# Altium footprint library INH v4.01.PcbLib: 13 footprints
Each footprint in its own frame and in the unit in brackets; x right, y up, seen from the top. Pads: shape width x height; smd on the part's side, far side on the other; paste and mask are expansions set on the pad; w line width, h text height; cw(c..) or ccw(c..) is an arc to the next point about the centre after c.
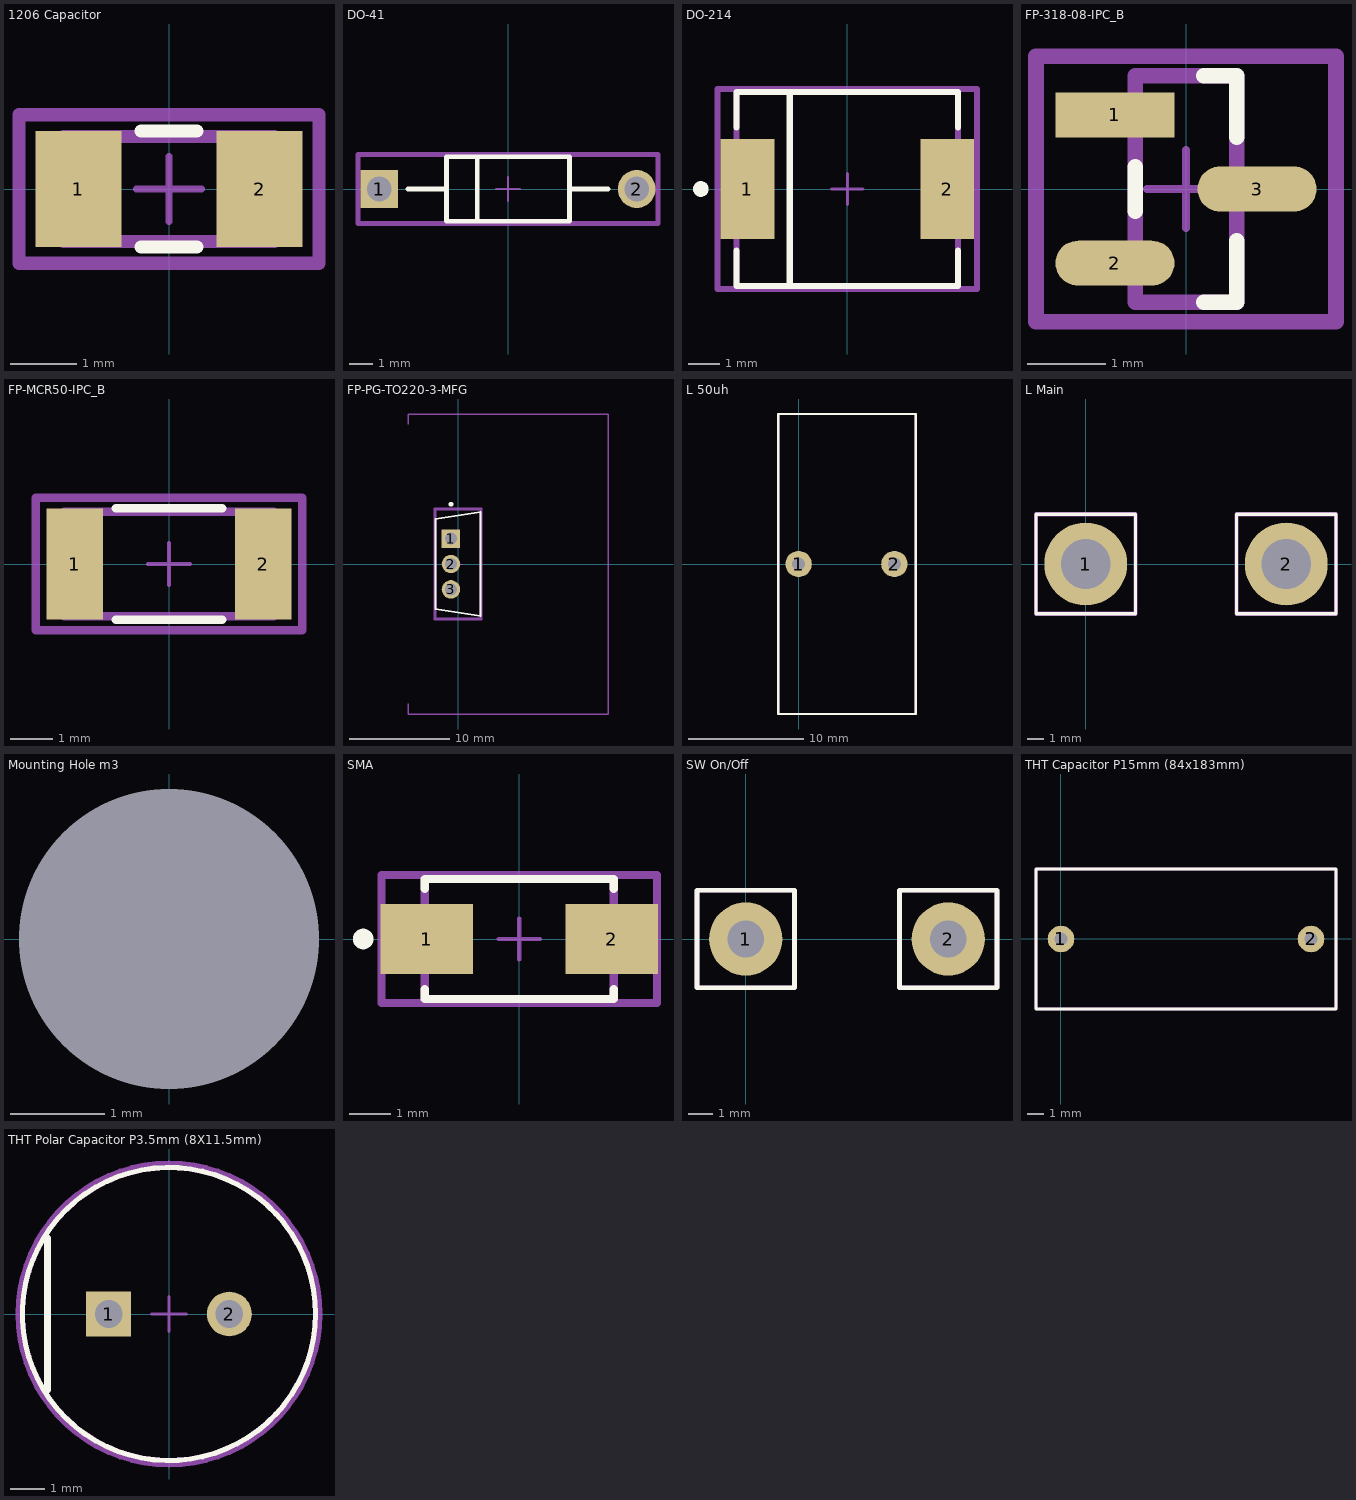
[diagram p0: the footprints below, top view; thin cyan lines are the x and y axes]

## 1206 Capacitor [mm]
pads (2):
  rect 1.305x1.758 smd paste+0 mask+0: 1(-1.376,0) 2(1.376,0)
Top Overlay:
  lines w0.2: -0.424,-0.879 0.424,-0.879 ; -0.424,0.879 0.424,0.879
Top Assembly:
  lines w0.2: -2.279,-1.129 -2.279,1.129 2.279,1.129 2.279,-1.129 -2.279,-1.129
  text ".Designator" at 0,0.188 h1
Top 3D Body:
  lines w0.2: -1.6,-0.8 -1.6,0.8 1.6,0.8 1.6,-0.8 -1.6,-0.8
Top Courtyard:
  lines w0.2: -2.279,-1.129 -2.279,1.129 2.279,1.129 2.279,-1.129 -2.279,-1.129
Top Component Center:
  lines w0.1: -0.5,0 0.5,0 ; 0,-0.5 0,0.5
3D body "Cap_Samsung_CL31B105KOFNNNE_eec.STEP": height 0.25, standoff 0, extent -2.279,-1.129 2.279,1.129

## DO-41 [mm]
pads (2):
  rect 1.6x1.6 hole 1.05 paste-2539.97 mask+0: 1(-5.438,0)
  round 1.6 hole 1.05 paste-2539.97 mask+0: 2(5.438,0)
Top Overlay:
  lines w0.2: -4.238,0 -2.6,0 ; -1.3,-1.29 -1.3,1.29 ; 2.6,0 4.238,0 ; -2.6,-1.36 -2.6,1.36 2.6,1.36 2.6,-1.36 -2.6,-1.36
Top Assembly:
  lines w0.2: -6.338,-1.46 -6.338,1.46 6.338,1.46 6.338,-1.46 -6.338,-1.46
  text ".Designator" at 0,0.188 h1
Top 3D Body:
  lines w0.2: -2.6,-1.36 -2.6,1.36 2.6,1.36 2.6,-1.36 -2.6,-1.36
Top Courtyard:
  lines w0.2: -6.338,-1.46 -6.338,1.46 6.338,1.46 6.338,-1.46 -6.338,-1.46
Top Component Center:
  lines w0.1: -0.5,0 0.5,0 ; 0,-0.5 0,0.5
3D body "Diode_onsemi_BZX85C3V9TR_eec.STEP": height 0.25, standoff 0, extent -6.338,-1.46 6.338,1.46

## DO-214 [mm]
pads (2):
  rect 1.72x3.2 smd paste+0 mask+0: 1(-3.205,0) 2(3.205,0)
Top Overlay:
  circle w0.25: c-4.7,0 r0.125
  lines w0.2: -3.555,-1.975 -3.555,-3.11 3.555,-3.11 3.555,-1.975 ; -3.555,1.975 -3.555,3.11 3.555,3.11 3.555,1.975 ; -1.85,-3 -1.85,3
Top Assembly:
  lines w0.2: -4.165,-3.21 -4.165,3.21 4.165,3.21 4.165,-3.21 -4.165,-3.21
  text ".Designator" at 0,-0.001 h1
Top 3D Body:
  lines w0.2: -3.555,-3.11 -3.555,3.11 3.555,3.11 3.555,-3.11 -3.555,-3.11
Top Courtyard:
  lines w0.2: -4.165,-3.21 -4.165,3.21 4.165,3.21 4.165,-3.21 -4.165,-3.21
Top Component Center:
  lines w0.1: -0.5,0 0.5,0 ; 0,-0.5 0,0.5
3D body "Diode_Vishay_SS34-E3-57T_eec.STEP": height 0.25, standoff 0, extent -4.165,-3.21 4.165,3.21

## FP-318-08-IPC_B [mm]
pads (3):
  rect 1.524x0.578 smd paste+0 mask+0: 1(-0.91,0.95)
  rrect100% 1.524x0.578 smd paste+0 mask+0: 2(-0.91,-0.95) 3(0.91,0)
Top Overlay:
  lines w0.2: -0.65,-0.286 -0.65,0.286 ; 0.227,-1.45 0.65,-1.45 0.65,-0.664 ; 0.227,1.45 0.65,1.45 0.65,0.664
Top Assembly:
  lines w0.2: -1.922,-1.7 -1.922,1.7 1.922,1.7 1.922,-1.7 -1.922,-1.7
  text ".Designator" at 0,-0.001 h1
Top 3D Body:
  lines w0.2: -0.65,-1.45 -0.65,1.45 0.65,1.45 0.65,-1.45 -0.65,-1.45
Top Courtyard:
  lines w0.2: -1.922,-1.7 -1.922,1.7 1.922,1.7 1.922,-1.7 -1.922,-1.7
Top Component Center:
  lines w0.1: -0.5,0 0.5,0 ; 0,-0.5 0,0.5
3D body "IC_ON_Semiconductor_NUD3112LT1G_eec.STEP": height 0.25, standoff 0, extent -1.922,-1.7 1.922,1.7

## FP-MCR50-IPC_B [mm]
pads (2):
  rect 1.356x2.658 smd paste+0 mask+0: 1(-2.251,0) 2(2.251,0)
Top Overlay:
  lines w0.2: -1.273,-1.329 1.273,-1.329 ; -1.273,1.329 1.273,1.329
Top Assembly:
  lines w0.2: -3.179,-1.579 -3.179,1.579 3.179,1.579 3.179,-1.579 -3.179,-1.579
  text ".Designator" at 0,0.188 h1
Top 3D Body:
  lines w0.2: -2.5,-1.25 -2.5,1.25 2.5,1.25 2.5,-1.25 -2.5,-1.25
Top Courtyard:
  lines w0.2: -3.179,-1.579 -3.179,1.579 3.179,1.579 3.179,-1.579 -3.179,-1.579
Top Component Center:
  lines w0.1: -0.5,0 0.5,0 ; 0,-0.5 0,0.5
3D body "Res_Rohm_MCR50JZHF6810_eec.STEP": height 0.25, standoff 0, extent -3.179,-1.579 3.179,1.579

## FP-PG-TO220-3-MFG [mm]
pads (3):
  rect 1.85x1.85 hole 1.2 paste-2539.97 mask+0: 1(-0.705,2.54)
  round 1.85 hole 1.2 paste-2539.97 mask+0: 2(-0.705,0) 3(-0.705,-2.54)
Top Overlay:
  circle w0.25: c-0.705,5.975 r0.125
  lines w0.2: -2.275,-4.5 2.275,-5.2 2.275,5.2 -2.275,4.5 -2.275,-4.5
Top Assembly:
  lines w0.2: -2.375,-5.55 2.375,-5.55 2.375,5.55 -2.375,5.55 -2.375,-5.55
  text ".Designator" at 0,-0.001 h1
Top 3D Body:
  lines w0.15: -5,-14 -5,-15 15,-15 15,15 -5,15 -5,14
  lines w0.2: -2.275,-5.45 2.275,-5.45 2.275,5.45 -2.275,5.45 -2.275,-5.45
Top Courtyard:
  lines w0.2: -2.375,-5.55 2.375,-5.55 2.375,5.55 -2.375,5.55 -2.375,-5.55
Top Component Center:
  lines w0.1: -0.5,0 0.5,0 ; 0,-0.5 0,0.5
3D body: height 35, standoff 0, extent -5,-15 15,15
3D body "Trans_Infineon_IRF6218PBF_eec.STEP": height 0.25, standoff 0, extent -2.375,-5.55 2.375,5.55

## L 50uh [mil]
pads (2):
  round 90 hole 45: 1(0,0) 2(326.77,0)
Top Overlay:
  lines w7.87: -70,-511.81 0,-511.81 326.77,-511.81 400,-511.81 400,511.81 326.77,511.81 0,511.81 -70,511.81 -70,-511.81
Top Assembly:
  lines w7.87: -70,-511.81 0,-511.81 326.77,-511.81 400,-511.81 400,511.81 326.77,511.81 0,511.81 -70,511.81 -70,-511.81
  text ".Designator" at 27.25,-9.18 h27.56
Top Courtyard:
  lines w7.87: -70,-511.81 0,-511.81 326.77,-511.81 400,-511.81 400,511.81 326.77,511.81 0,511.81 -70,511.81 -70,-511.81
3D body: height 100, standoff 0, extent 301.77,-25 351.77,25
3D body: height 1023.62, standoff 0, extent -68.9,-513.39 403.54,510.24
3D body: height 100, standoff 0, extent -25,-25 25,25

## L Main [mm]
pads (2):
  round 5 hole 3: 1(0,0) 2(12.1,0)
Top Overlay:
  lines w0.2: -3,-3 3,-3 3,3 -3,3 -3,-3 ; 9.1,-3 15.1,-3 15.1,3 9.1,3 9.1,-3
Top Assembly:
  lines w0.2: -3,-3 3,-3 3,3 -3,3 -3,-3 ; 9.1,-3 15.1,-3 15.1,3 9.1,3 9.1,-3
  text ".Designator" at 2.501,-0.233 h0.7
Top Courtyard:
  lines w0.254: -3,-3 3,-3 3,3 -3,3 -3,-3 ; 9.1,-3 15.1,-3 15.1,3 9.1,3 9.1,-3

## Mounting Hole m3 [mm]
pads (1):
  round 0 hole 3.2 unplated: ""(0,0)

## SMA [mm]
pads (2):
  rect 2.25x1.7 smd paste+0 mask+0: 1(-2.25,0) 2(2.25,0)
Top Overlay:
  circle w0.25: c-3.8,0 r0.125
  lines w0.2: -2.3,-1.225 -2.3,-1.46 2.3,-1.46 2.3,-1.225 ; -2.3,1.225 -2.3,1.46 2.3,1.46 2.3,1.225
Top Assembly:
  lines w0.2: -3.35,-1.56 3.35,-1.56 3.35,1.56 -3.35,1.56 -3.35,-1.56
  text ".Designator" at 0,0.188 h1
Top 3D Body:
  lines w0.2: -2.3,-1.46 2.3,-1.46 2.3,1.46 -2.3,1.46 -2.3,-1.46
Top Courtyard:
  lines w0.2: -3.35,-1.56 3.35,-1.56 3.35,1.56 -3.35,1.56 -3.35,-1.56
Top Component Center:
  lines w0.1: -0.5,0 0.5,0 ; 0,-0.5 0,0.5
3D body "Diode_Diodes_Inc_SBRT5A50SA-13_eec.STEP": height 0.25, standoff 0, extent -3.35,-1.56 3.35,1.56

## SW On/Off [mm]
pads (2):
  round 3 hole 1.5: 1(0,0) 2(8.3,0)
Top Overlay:
  lines w0.2: -2,-2 -2,2 2,2 2,-2 -2,-2 ; 6.3,-2 6.3,2 10.3,2 10.3,-2 6.3,-2
Top Assembly:
  lines w0.2: -2,-2 -2,2 2,2 2,-2 -2,-2 ; 6.3,-2 6.3,2 10.3,2 10.3,-2 6.3,-2
  text ".Designator" at 0.751,-0.233 h0.7
Top Courtyard:
  lines w0.2: -2,-2 -2,2 2,2 2,-2 -2,-2 ; 6.3,-2 6.3,2 10.3,2 10.3,-2 6.3,-2

## THT Capacitor P15mm (84x183mm) [mm]
pads (2):
  round 1.6 hole 0.8: 1(0,0) 2(15,0)
Top Overlay:
  lines w0.2: -1.5,-4.2 16.5,-4.2 16.5,4.2 -1.5,4.2 -1.5,-4.2
Top Assembly:
  lines w0.2: -1.5,-4.2 16.5,-4.2 16.5,4.2 -1.5,4.2 -1.5,-4.2
  text ".Designator" at 0.254,0.762 h1.52
Top Courtyard:
  lines w0.2: -1.5,-4.2 16.5,-4.2 16.5,4.2 -1.5,4.2 -1.5,-4.2
3D body: height 0, standoff -2.54, extent 14.619,-0.381 15.381,0.381
3D body: height 0, standoff -2.54, extent -0.381,-0.381 0.381,0.381
3D body: height 18.3, standoff 0, extent -1.5,-4.25 16.5,4.25

## THT Polar Capacitor P3.5mm (8X11.5mm) [mm]
pads (2):
  rect 1.3x1.3 hole 0.8 paste-2539.97 mask+0: 1(-1.75,0)
  round 1.3 hole 0.8 paste-2539.97 mask+0: 2(1.75,0)
Top Overlay:
  circle w0.15: c0,0 r4.25
  lines w0.2: -3.525,-2.2 -3.525,2.2
Top Assembly:
  text ".Designator" at 0,0.188 h1
Top 3D Body:
  circle w0.15: c0,0 r4.25
Top Courtyard:
  lines w0.2: -4.35,0 cw(c0,0) 4.35,0 cw(c0,0) -4.35,0
Top Component Center:
  lines w0.1: -0.5,0 0.5,0 ; 0,-0.5 0,0.5
3D body "Cap_Panasonic_EEUFC1A471_eec.STEP": height 0.25, standoff 0, extent -4.35,-4.35 4.35,4.35